# EAGLE library part MMS42 (library switches)
4PDT - SWITCH SLIDE 4PDT 300MA 30V
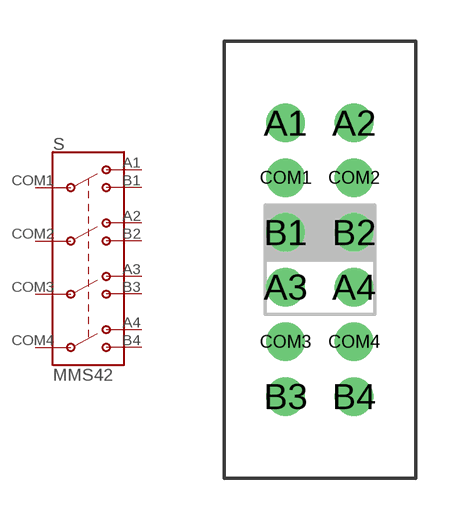
[diagram p12: symbol with the pads of MMS42; footprint MMS42]

Designator prefix S

## MMS42 (DIGIKEY: 679-1858-ND; MPN: MMS42)  [MMS42]
A1  1TA
A2  2TA
A3  3TA
A4  4TA
B1  1TB
B2  2TB
B3  3TB
B4  4TB
COM1  1P
COM2  2P
COM3  3P
COM4  4P

## Footprint MMS42 (pad centres in mm)
MMS42 - 4P2T Drawn from http://www.apem.com/files/apem/brochures/MMS_MICRO_SLIDE.pdf DigiKey: 679-1858-ND
drill 0.9: A1 -1.25,5; A2 1.25,5; A3 -1.25,-1; A4 1.25,-1; B1 -1.25,1; B2 1.25,1; B3 -1.25,-5; B4 1.25,-5; COM1 -1.25,3; COM2 1.25,3; COM3 -1.25,-3; COM4 1.25,-3